# Altium integrated library TI Power Management Switching Regulator Charge Pump (Inductorless).IntLib: 239 symbols (part 8 of 14)
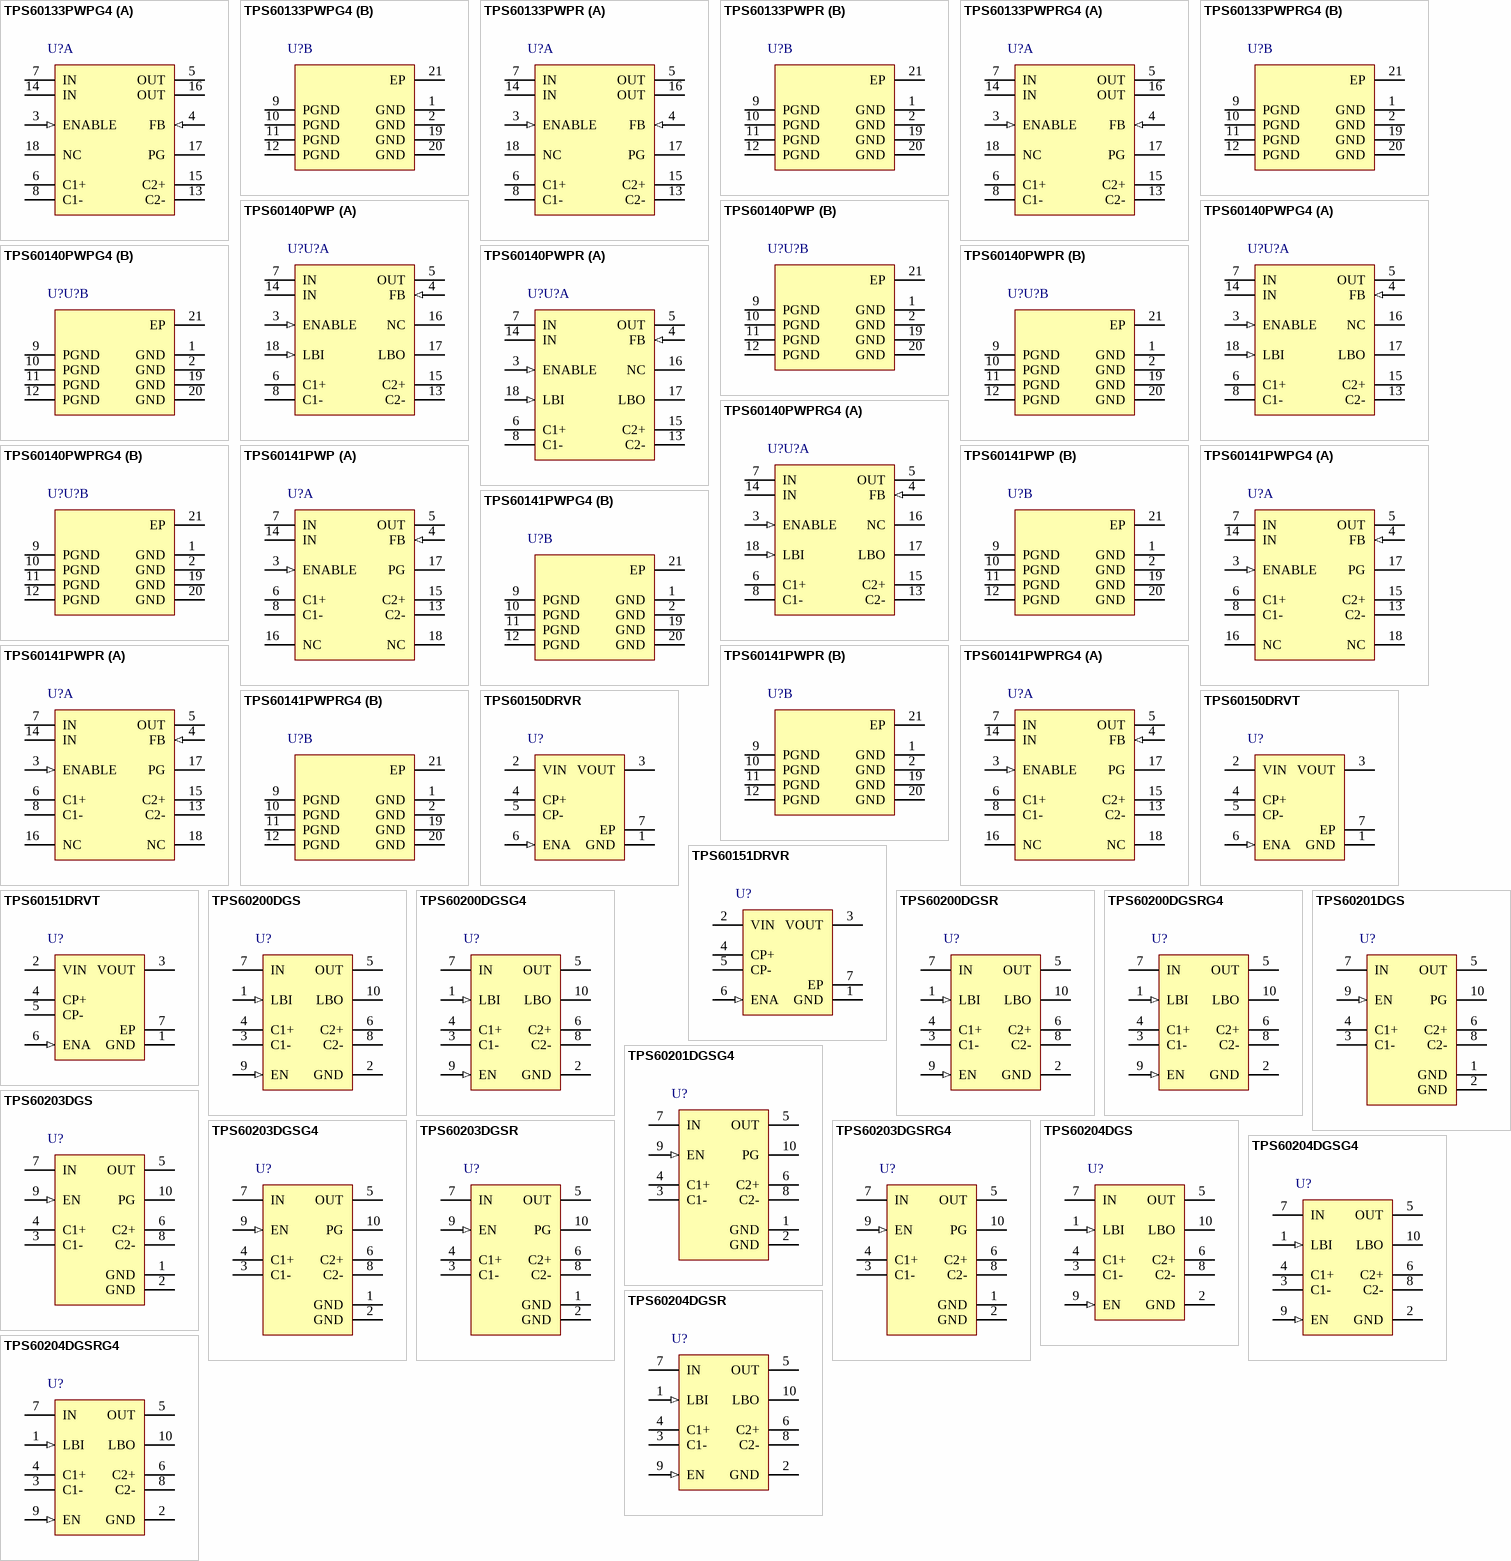
[diagram p14: symbols TPS60133PWPG4 to TPS60204DGSRG4]

## TPS60141PWPRG4
designator U?
5 V, Boost Charge Pump, 100 mA, 1.8 to 3.6 V Input with 2-Cell Alkaline / Nixx Input, -40 to 85 degC, 20-pin SOP (PWP20), Green (RoHS & no Sb/Br); Manufacturer: Texas Instruments; PartNumber: TPS60141PWPRG4; 2-Cell Alkaline/Nixx Input: TRUE; Efficiency(Typ)(%): 70; Iout(Max)(A): 0.1; Iq(Typ)(mA): 0.065; Preset Vout(V): 5; Switching Frequency(Max)(kHz): 450; Vin(Max)(V): 3.6; Vin(Min)(V): 1.8; Vout(Max)(V): 5.2; Vout(Min)(V): 4.8; DatasheetVersion: SLVS273; PackageVersion: 4073225-4/I; PackageReference: PWP20-2680X1950TP; PackageDescription: 20-Pin Plastic Small Outline, Body 6.5 x 4.4 mm, Pitch 0.65 mm; Supplier 1: Digi-Key; Supplier Part Number 1: TPS60141PWPRG4-ND; Supplier 2: Newark; Supplier Part Number 2: 54K1690; Supplier 3: Mouser; Supplier Part Number 3: 595-TPS60141PWPRG4; Eco-Plan: Green (RoHS & no Sb/Br); Topology: Boost; Mounting Technology: Surface Mount; Code_JEDEC: MO-153; ComponentLink1Description: Manufacturer URL; ComponentLink1URL: http://www.ti.com/; ComponentLink2Description: Datasheet; ComponentLink2URL: http://www.ti.com/general/docs/lit/getliterature.tsp?genericPartNumber=TPS60141&fileType=pdf; ComponentLink3Description: Package Specification; ComponentLink3URL: http://www.ti.com/litv/pdf/mhts001g
footprint TI-PWP20-2680X1950TP_N (SOP, 20-Leads, Body 6.4x4.4mm, Pitch 0.65mm, Thermal Pad 1.95x2.675mm, IPC Medium Density)
footprint TI-PWP20-2680X1950TP_L (SOP, 20-Leads, Body 6.4x4.4mm, Pitch 0.65mm, Thermal Pad 1.95x2.675mm, IPC High Density)
footprint TI-PWP20-2680X1950TP_M (SOP, 20-Leads, Body 6.4x4.4mm, Pitch 0.65mm, Thermal Pad 1.95x2.675mm, IPC Low Density)
part A pins: 3 ENABLE (in) "ENABLE input. Connect ENABLE to IN for normal operation. When ENABLE is a logic low, the device turns off and the supply current decreases to 0.05 µA. The output is disconnected from the input when the device is placed in (See Datasheet)", 4 FB (in) "Feedback input. Connect FB to OUT as close to the load as possible to achieve best regulation. A resistive divider is on the chip to match the output voltage to the internal reference voltage of 1.21 V.", 5 OUT (power) "Regulated 5-V power output. Bypass OUT to PGND with the output filter capacitor Co.", 6 C1+ "Positive terminal of the flying capacitor C1", 7 IN (power) "Supply input. Bypass IN to PGND with capacitor Ci . Connect both IN terminals through a short trace.", 8 C1- "Negative terminal of the flying capacitor C1", 13 C2- "Negative terminal of the flying capacitor C2", 14 IN (power) "Supply input. Bypass IN to PGND with capacitor Ci . Connect both IN terminals through a short trace.", 15 C2+ "Positive terminal of the flying capacitor C2", 16 NC "Not connected", 17 PG (hiz) "Low battery detector output (TPS60140) or power good output (TPS60141). Open drain output of the low-battery indicator or power-good comparator. It can sink 1 mA. A 100-k ohm to 1-Mohm pullup is recommended. Leave the (See Datasheet)", 18 NC "Low battery detector input (TPS60140 only). The voltage applied to this terminal is compared to the internal 1.21-V reference voltage. Connect the terminal to ground if the low-battery comparator is not used. On the (See Datasheet)"
part B pins: 1 GND (power) "Ground. Analog ground for internal reference and control circuitry. Connect to PGND through a short trace.", 2 GND (power) "Ground. Analog ground for internal reference and control circuitry. Connect to PGND through a short trace.", 9 PGND (power) "Power ground. The charge-pump current flows through this terminal. Connect all PGND terminals together.", 10 PGND (power) "Power ground. The charge-pump current flows through this terminal. Connect all PGND terminals together.", 11 PGND (power) "Power ground. The charge-pump current flows through this terminal. Connect all PGND terminals together.", 12 PGND (power) "Power ground. The charge-pump current flows through this terminal. Connect all PGND terminals together.", 19 GND (power) "Ground. Analog ground for internal reference and control circuitry. Connect to PGND through a short trace.", 20 GND (power) "Ground. Analog ground for internal reference and control circuitry. Connect to PGND through a short trace.", 21 EP

## TPS60150DRVR
designator U?
5 V, Step-Up Charge Pump Regulator, 140 mA, 2.7 to 5.5 V Input, -40 to 85 degC, 6-pin SON (DRV6), Green (RoHS & no Sb/Br); Manufacturer: Texas Instruments; PartNumber: TPS60150DRVR; Efficiency(Typ)(%): 70; Iout(Max)(A): 0.14; Iq(Typ)(mA): 4.7; Preset Vout(V): 5; Switching Frequency(Max)(kHz): 1500; Topology: Boost; Vin(Max)(V): 5.5; Vin(Min)(V): 2.7; Vout(Max)(V): 5.2; Vout(Min)(V): 4.8; DatasheetVersion: SLVS888B; PackageVersion: 4206925/E; PackageReference: DRV6-1600X1000TP; PackageDescription: 6-Pin Plastic Small Outline No-Lead, Body 2 x 2 mm, Pitch 0.65 mm; Supplier 1: Digi-Key; Supplier Part Number 1: 296-24054-2-ND; Supplier 2: Digi-Key; Supplier Part Number 2: 296-24054-1-ND; Supplier 3: Digi-Key; Supplier Part Number 3: 296-24054-6-ND; Supplier 4: Farnell; Supplier Part Number 4: 2120468; Supplier 5: Newark; Supplier Part Number 5: 94T5098; Supplier 6: Newark; Supplier Part Number 6: 45P8283; Supplier 7: Mouser; Supplier Part Number 7: 595-TPS60150DRVR; Eco-Plan: Green (RoHS & no Sb/Br); Mounting Technology: Surface Mount; ComponentLink1Description: Manufacturer URL; ComponentLink1URL: http://www.ti.com/; ComponentLink2Description: Datasheet; ComponentLink2URL: http://www.ti.com/general/docs/lit/getliterature.tsp?genericPartNumber=TPS60150&fileType=pdf; ComponentLink3Description: Package Specification; ComponentLink3URL: http://www.ti.com/litv/pdf/mpds216d
footprint TI-DRV6-1600X1000TP_V (SON, 6-Leads, Body 2x2mm, Pitch 0.65mm, Thermal Pad 1X1.6mm)
pins: 1 GND (power) "Ground", 2 VIN (power) "Supply voltage input", 3 VOUT (power) "Output, Connect to the output capacitor", 4 CP+ "Connect to the flying capacitor", 5 CP- "Connect to the flying capacitor", 6 ENA (in) "Hardware Enable/Disable Pin (High = Enable)", 7 EP (power)

## TPS60150DRVT
designator U?
5 V, Step-Up Charge Pump Regulator, 140 mA, 2.7 to 5.5 V Input, -40 to 85 degC, 6-pin SON (DRV6), Green (RoHS & no Sb/Br); Manufacturer: Texas Instruments; PartNumber: TPS60150DRVT; Efficiency(Typ)(%): 70; Iout(Max)(A): 0.14; Iq(Typ)(mA): 4.7; Preset Vout(V): 5; Switching Frequency(Max)(kHz): 1500; Topology: Boost; Vin(Max)(V): 5.5; Vin(Min)(V): 2.7; Vout(Max)(V): 5.2; Vout(Min)(V): 4.8; DatasheetVersion: SLVS888B; PackageVersion: 4206925/E; PackageReference: DRV6-1600X1000TP; PackageDescription: 6-Pin Plastic Small Outline No-Lead, Body 2 x 2 mm, Pitch 0.65 mm; Supplier 1: Digi-Key; Supplier Part Number 1: 296-27001-2-ND; Supplier 2: Digi-Key; Supplier Part Number 2: 296-27001-1-ND; Supplier 3: Digi-Key; Supplier Part Number 3: 296-27001-6-ND; Supplier 4: Farnell; Supplier Part Number 4: 1710822RL; Supplier 5: Farnell; Supplier Part Number 5: 1710822; Supplier 6: Newark; Supplier Part Number 6: 15R2542; Supplier 7: Newark; Supplier Part Number 7: 45P8284; Supplier 8: Mouser; Supplier Part Number 8: 595-TPS60150DRVT; Eco-Plan: Green (RoHS & no Sb/Br); Mounting Technology: Surface Mount; ComponentLink1Description: Manufacturer URL; ComponentLink1URL: http://www.ti.com/; ComponentLink2Description: Datasheet; ComponentLink2URL: http://www.ti.com/general/docs/lit/getliterature.tsp?genericPartNumber=TPS60150&fileType=pdf; ComponentLink3Description: Package Specification; ComponentLink3URL: http://www.ti.com/litv/pdf/mpds216d
footprint TI-DRV6-1600X1000TP_V (SON, 6-Leads, Body 2x2mm, Pitch 0.65mm, Thermal Pad 1X1.6mm)
pins: 1 GND (power) "Ground", 2 VIN (power) "Supply voltage input", 3 VOUT (power) "Output, Connect to the output capacitor", 4 CP+ "Connect to the flying capacitor", 5 CP- "Connect to the flying capacitor", 6 ENA (in) "Hardware Enable/Disable Pin (High = Enable)", 7 EP (power)

## TPS60151DRVR
designator U?
5 V, Step-Up Charge Pump Regulator, 140 mA, 2.7 to 5.5 V Input, -40 to 85 degC, 6-pin SON (DRV6), Green (RoHS & no Sb/Br); Manufacturer: Texas Instruments; PartNumber: TPS60151DRVR; Efficiency(Typ)(%): 70; Iout(Max)(A): 0.14; Iq(Typ)(mA): 4.7; Preset Vout(V): 5; Switching Frequency(Max)(kHz): 1500; Topology: Boost; Vin(Max)(V): 5.5; Vin(Min)(V): 2.7; Vout(Max)(V): 5.2; Vout(Min)(V): 4.8; DatasheetVersion: SLVSA02; PackageVersion: 4206925/E; PackageReference: DRV6-1600X1000TP; PackageDescription: 6-Pin Plastic Small Outline No-Lead, Body 2 x 2 mm, Pitch 0.65 mm; Supplier 1: Digi-Key; Supplier Part Number 1: 296-25279-2-ND; Supplier 2: Digi-Key; Supplier Part Number 2: 296-25279-1-ND; Supplier 3: Digi-Key; Supplier Part Number 3: 296-25279-6-ND; Supplier 4: Newark; Supplier Part Number 4: 55R7602; Supplier 5: Mouser; Supplier Part Number 5: 595-TPS60151DRVR; Eco-Plan: Green (RoHS & no Sb/Br); Mounting Technology: Surface Mount; ComponentLink1Description: Manufacturer URL; ComponentLink1URL: http://www.ti.com/; ComponentLink2Description: Datasheet; ComponentLink2URL: http://www.ti.com/general/docs/lit/getliterature.tsp?genericPartNumber=TPS60151&fileType=pdf; ComponentLink3Description: Package Specification; ComponentLink3URL: http://www.ti.com/litv/pdf/mpds216d
footprint TI-DRV6-1600X1000TP_V (SON, 6-Leads, Body 2x2mm, Pitch 0.65mm, Thermal Pad 1X1.6mm)
pins: 1 GND (power) "Ground", 2 VIN (power) "Supply voltage input", 3 VOUT (power) "Output, Connect to the output capacitor", 4 CP+ "Connect to the flying capacitor", 5 CP- "Connect to the flying capacitor", 6 ENA (in) "Hardware Enable/Disable Pin (High = Enable)", 7 EP

## TPS60151DRVT
designator U?
5 V, Step-Up Charge Pump Regulator, 140 mA, 2.7 to 5.5 V Input, -40 to 85 degC, 6-pin SON (DRV6), Green (RoHS & no Sb/Br); Manufacturer: Texas Instruments; PartNumber: TPS60151DRVT; Efficiency(Typ)(%): 70; Iout(Max)(A): 0.14; Iq(Typ)(mA): 4.7; Preset Vout(V): 5; Switching Frequency(Max)(kHz): 1500; Topology: Boost; Vin(Max)(V): 5.5; Vin(Min)(V): 2.7; Vout(Max)(V): 5.2; Vout(Min)(V): 4.8; DatasheetVersion: SLVSA02; PackageVersion: 4206925/E; PackageReference: DRV6-1600X1000TP; PackageDescription: 6-Pin Plastic Small Outline No-Lead, Body 2 x 2 mm, Pitch 0.65 mm; Supplier 1: Digi-Key; Supplier Part Number 1: 296-32495-2-ND; Supplier 2: Digi-Key; Supplier Part Number 2: 296-32495-1-ND; Supplier 3: Digi-Key; Supplier Part Number 3: 296-32495-6-ND; Supplier 4: Newark; Supplier Part Number 4: 55R7603; Supplier 5: Mouser; Supplier Part Number 5: 595-TPS60151DRVT; Eco-Plan: Green (RoHS & no Sb/Br); Mounting Technology: Surface Mount; ComponentLink1Description: Manufacturer URL; ComponentLink1URL: http://www.ti.com/; ComponentLink2Description: Datasheet; ComponentLink2URL: http://www.ti.com/general/docs/lit/getliterature.tsp?genericPartNumber=TPS60151&fileType=pdf; ComponentLink3Description: Package Specification; ComponentLink3URL: http://www.ti.com/litv/pdf/mpds216d
footprint TI-DRV6-1600X1000TP_V (SON, 6-Leads, Body 2x2mm, Pitch 0.65mm, Thermal Pad 1X1.6mm)
pins: 1 GND (power) "Ground", 2 VIN (power) "Supply voltage input", 3 VOUT (power) "Output, Connect to the output capacitor", 4 CP+ "Connect to the flying capacitor", 5 CP- "Connect to the flying capacitor", 6 ENA (in) "Hardware Enable/Disable Pin (High = Enable)", 7 EP

## TPS60200DGS
designator U?
3.3 V, Boost Charge Pump, 100 mA, 1.6 to 3.6 V Input with 2-Cell Alkaline / Nixx Input, -40 to 85 degC, 10-pin SOP (DGS10), Green (RoHS & no Sb/Br); Manufacturer: Texas Instruments; PartNumber: TPS60200DGS; 2-Cell Alkaline/Nixx Input: TRUE; Efficiency(Typ)(%): 70; Iout(Max)(A): 0.1; Iq(Typ)(mA): 0.035; Preset Vout(V): 3.3; Switching Frequency(Max)(kHz): 400; Vin(Max)(V): 3.6; Vin(Min)(V): 1.6; Vout(Max)(V): 3.47; Vout(Min)(V): 3.17; DatasheetVersion: SLVS274; PackageVersion: 4073225-6/I; PackageReference: DGS10; PackageDescription: 10-Pin Plastic Small Outline, Body 3.00 x 3.00 mm, Pitch 0.50 mm; Supplier 1: Digi-Key; Supplier Part Number 1: 296-10954-5-ND; Supplier 2: Newark; Supplier Part Number 2: 77C0577; Supplier 3: Mouser; Supplier Part Number 3: 595-TPS60200DGS; Eco-Plan: Green (RoHS & no Sb/Br); Topology: Boost; Mounting Technology: Surface Mount; Code_JEDEC: MO-153; ComponentLink1Description: Manufacturer URL; ComponentLink1URL: http://www.ti.com/; ComponentLink2Description: Datasheet; ComponentLink2URL: http://www.ti.com/general/docs/lit/getliterature.tsp?genericPartNumber=TPS60200&fileType=pdf; ComponentLink3Description: Package Specification; ComponentLink3URL: http://www.ti.com/litv/pdf/mpds373
footprint TI-DGS10_N (SOP, 10-Leads, Body 3x3mm, Pitch 0.5mm, IPC Medium Density)
footprint TI-DGS10_L (SOP, 10-Leads, Body 3x3mm, Pitch 0.5mm, IPC High Density)
footprint TI-DGS10_M (SOP, 10-Leads, Body 3x3mm, Pitch 0.5mm, IPC Low Density)
pins: 1 LBI (in) "Low-battery detector input for TPS60200 and TPS60202. A low-battery warning is generated at the LBO pin when the voltage on LBI drops below the threshold of 1.18 V. Connect LBI to GND if the low-battery detector function is (See Datasheet)", 2 GND (power) "Ground.", 3 C1- "Negative terminal of the flying capacitor C1", 4 C1+ "Positive terminal of the flying capacitor C1", 5 OUT (power) "Regulated 3.3-V power output. Bypass OUT to GND with the output filter capacitor Co.", 6 C2+ "Positive terminal of the flying capacitor C2", 7 IN (power) "Supply input. Bypass IN to GND with a capacitor of the same size as Co.", 8 C2- "Negative terminal of the flying capacitor C2", 9 EN (in) "Device-enable input. Three operating modes can be programmed with the EN pin.", 10 LBO (hiz) "Open-drain low-battery detector output for TPS60200 and TPS60202. This pin is pulled low if the voltage on LBI drops below the threshold of 1.18 V. A pullup resistor should be connected between LBO and OUT or any other logic (See Datasheet)"

## TPS60200DGSG4
designator U?
3.3 V, Boost Charge Pump, 100 mA, 1.6 to 3.6 V Input with 2-Cell Alkaline / Nixx Input, -40 to 85 degC, 10-pin SOP (DGS10), Green (RoHS & no Sb/Br); Manufacturer: Texas Instruments; PartNumber: TPS60200DGSG4; 2-Cell Alkaline/Nixx Input: TRUE; Efficiency(Typ)(%): 70; Iout(Max)(A): 0.1; Iq(Typ)(mA): 0.035; Preset Vout(V): 3.3; Switching Frequency(Max)(kHz): 400; Vin(Max)(V): 3.6; Vin(Min)(V): 1.6; Vout(Max)(V): 3.47; Vout(Min)(V): 3.17; DatasheetVersion: SLVS274; PackageVersion: 4073225-6/I; PackageReference: DGS10; PackageDescription: 10-Pin Plastic Small Outline, Body 3.00 x 3.00 mm, Pitch 0.50 mm; Supplier 1: Digi-Key; Supplier Part Number 1: TPS60200DGSG4-ND; Supplier 2: Farnell; Supplier Part Number 2: 1214398; Supplier 3: Newark; Supplier Part Number 3: 98K1821; Supplier 4: Mouser; Supplier Part Number 4: 595-TPS60200DGSG4; Eco-Plan: Green (RoHS & no Sb/Br); Topology: Boost; Mounting Technology: Surface Mount; Code_JEDEC: MO-153; ComponentLink1Description: Manufacturer URL; ComponentLink1URL: http://www.ti.com/; ComponentLink2Description: Datasheet; ComponentLink2URL: http://www.ti.com/general/docs/lit/getliterature.tsp?genericPartNumber=TPS60200&fileType=pdf; ComponentLink3Description: Package Specification; ComponentLink3URL: http://www.ti.com/litv/pdf/mpds373
footprint TI-DGS10_N (SOP, 10-Leads, Body 3x3mm, Pitch 0.5mm, IPC Medium Density)
footprint TI-DGS10_L (SOP, 10-Leads, Body 3x3mm, Pitch 0.5mm, IPC High Density)
footprint TI-DGS10_M (SOP, 10-Leads, Body 3x3mm, Pitch 0.5mm, IPC Low Density)
pins: 1 LBI (in) "Low-battery detector input for TPS60200 and TPS60202. A low-battery warning is generated at the LBO pin when the voltage on LBI drops below the threshold of 1.18 V. Connect LBI to GND if the low-battery detector function is (See Datasheet)", 2 GND (power) "Ground.", 3 C1- "Negative terminal of the flying capacitor C1", 4 C1+ "Positive terminal of the flying capacitor C1", 5 OUT (power) "Regulated 3.3-V power output. Bypass OUT to GND with the output filter capacitor Co.", 6 C2+ "Positive terminal of the flying capacitor C2", 7 IN (power) "Supply input. Bypass IN to GND with a capacitor of the same size as Co.", 8 C2- "Negative terminal of the flying capacitor C2", 9 EN (in) "Device-enable input. Three operating modes can be programmed with the EN pin.", 10 LBO (hiz) "Open-drain low-battery detector output for TPS60200 and TPS60202. This pin is pulled low if the voltage on LBI drops below the threshold of 1.18 V. A pullup resistor should be connected between LBO and OUT or any other logic (See Datasheet)"

## TPS60200DGSR
designator U?
3.3 V, Boost Charge Pump, 100 mA, 1.6 to 3.6 V Input with 2-Cell Alkaline / Nixx Input, -40 to 85 degC, 10-pin SOP (DGS10), Green (RoHS & no Sb/Br); Manufacturer: Texas Instruments; PartNumber: TPS60200DGSR; 2-Cell Alkaline/Nixx Input: TRUE; Efficiency(Typ)(%): 70; Iout(Max)(A): 0.1; Iq(Typ)(mA): 0.035; Preset Vout(V): 3.3; Switching Frequency(Max)(kHz): 400; Vin(Max)(V): 3.6; Vin(Min)(V): 1.6; Vout(Max)(V): 3.47; Vout(Min)(V): 3.17; DatasheetVersion: SLVS274; PackageVersion: 4073225-6/I; PackageReference: DGS10; PackageDescription: 10-Pin Plastic Small Outline, Body 3.00 x 3.00 mm, Pitch 0.50 mm; Supplier 1: Digi-Key; Supplier Part Number 1: TPS60200DGSR-ND; Supplier 2: Newark; Supplier Part Number 2: 77C0578; Supplier 3: Mouser; Supplier Part Number 3: 595-TPS60200DGSR; Eco-Plan: Green (RoHS & no Sb/Br); Topology: Boost; Mounting Technology: Surface Mount; Code_JEDEC: MO-153; ComponentLink1Description: Manufacturer URL; ComponentLink1URL: http://www.ti.com/; ComponentLink2Description: Datasheet; ComponentLink2URL: http://www.ti.com/general/docs/lit/getliterature.tsp?genericPartNumber=TPS60200&fileType=pdf; ComponentLink3Description: Package Specification; ComponentLink3URL: http://www.ti.com/litv/pdf/mpds373
footprint TI-DGS10_N (SOP, 10-Leads, Body 3x3mm, Pitch 0.5mm, IPC Medium Density)
footprint TI-DGS10_L (SOP, 10-Leads, Body 3x3mm, Pitch 0.5mm, IPC High Density)
footprint TI-DGS10_M (SOP, 10-Leads, Body 3x3mm, Pitch 0.5mm, IPC Low Density)
pins: 1 LBI (in) "Low-battery detector input for TPS60200 and TPS60202. A low-battery warning is generated at the LBO pin when the voltage on LBI drops below the threshold of 1.18 V. Connect LBI to GND if the low-battery detector function is (See Datasheet)", 2 GND (power) "Ground.", 3 C1- "Negative terminal of the flying capacitor C1", 4 C1+ "Positive terminal of the flying capacitor C1", 5 OUT (power) "Regulated 3.3-V power output. Bypass OUT to GND with the output filter capacitor Co.", 6 C2+ "Positive terminal of the flying capacitor C2", 7 IN (power) "Supply input. Bypass IN to GND with a capacitor of the same size as Co.", 8 C2- "Negative terminal of the flying capacitor C2", 9 EN (in) "Device-enable input. Three operating modes can be programmed with the EN pin.", 10 LBO (hiz) "Open-drain low-battery detector output for TPS60200 and TPS60202. This pin is pulled low if the voltage on LBI drops below the threshold of 1.18 V. A pullup resistor should be connected between LBO and OUT or any other logic (See Datasheet)"

## TPS60200DGSRG4
designator U?
3.3 V, Boost Charge Pump, 100 mA, 1.6 to 3.6 V Input with 2-Cell Alkaline / Nixx Input, -40 to 85 degC, 10-pin SOP (DGS10), Green (RoHS & no Sb/Br); Manufacturer: Texas Instruments; PartNumber: TPS60200DGSRG4; 2-Cell Alkaline/Nixx Input: TRUE; Efficiency(Typ)(%): 70; Iout(Max)(A): 0.1; Iq(Typ)(mA): 0.035; Preset Vout(V): 3.3; Switching Frequency(Max)(kHz): 400; Vin(Max)(V): 3.6; Vin(Min)(V): 1.6; Vout(Max)(V): 3.47; Vout(Min)(V): 3.17; DatasheetVersion: SLVS274; PackageVersion: 4073225-6/I; PackageReference: DGS10; PackageDescription: 10-Pin Plastic Small Outline, Body 3.00 x 3.00 mm, Pitch 0.50 mm; Supplier 1: Digi-Key; Supplier Part Number 1: TPS60200DGSRG4-ND; Supplier 2: Mouser; Supplier Part Number 2: 595-TPS60200DGSRG4; Eco-Plan: Green (RoHS & no Sb/Br); Topology: Boost; Mounting Technology: Surface Mount; Code_JEDEC: MO-153; ComponentLink1Description: Manufacturer URL; ComponentLink1URL: http://www.ti.com/; ComponentLink2Description: Datasheet; ComponentLink2URL: http://www.ti.com/general/docs/lit/getliterature.tsp?genericPartNumber=TPS60200&fileType=pdf; ComponentLink3Description: Package Specification; ComponentLink3URL: http://www.ti.com/litv/pdf/mpds373
footprint TI-DGS10_N (SOP, 10-Leads, Body 3x3mm, Pitch 0.5mm, IPC Medium Density)
footprint TI-DGS10_L (SOP, 10-Leads, Body 3x3mm, Pitch 0.5mm, IPC High Density)
footprint TI-DGS10_M (SOP, 10-Leads, Body 3x3mm, Pitch 0.5mm, IPC Low Density)
pins: 1 LBI (in) "Low-battery detector input for TPS60200 and TPS60202. A low-battery warning is generated at the LBO pin when the voltage on LBI drops below the threshold of 1.18 V. Connect LBI to GND if the low-battery detector function is (See Datasheet)", 2 GND (power) "Ground.", 3 C1- "Negative terminal of the flying capacitor C1", 4 C1+ "Positive terminal of the flying capacitor C1", 5 OUT (power) "Regulated 3.3-V power output. Bypass OUT to GND with the output filter capacitor Co.", 6 C2+ "Positive terminal of the flying capacitor C2", 7 IN (power) "Supply input. Bypass IN to GND with a capacitor of the same size as Co.", 8 C2- "Negative terminal of the flying capacitor C2", 9 EN (in) "Device-enable input. Three operating modes can be programmed with the EN pin.", 10 LBO (hiz) "Open-drain low-battery detector output for TPS60200 and TPS60202. This pin is pulled low if the voltage on LBI drops below the threshold of 1.18 V. A pullup resistor should be connected between LBO and OUT or any other logic (See Datasheet)"

## TPS60201DGS
designator U?
3.3 V, Boost Charge Pump, 100 mA, 1.6 to 3.6 V Input, -40 to 125 degC, 10-pin SOP (DGS10), Green (RoHS & no Sb/Br); Manufacturer: Texas Instruments; PartNumber: TPS60201DGS; 2-Cell Alkaline/Nixx Input: TRUE; Efficiency(Typ)(%): 70; Iout(Max)(A): 0.1; Iq(Typ)(mA): 0.035; Preset Vout(V): 3.3; Switching Frequency(Max)(kHz): 400; Vin(Max)(V): 3.6; Vin(Min)(V): 1.6; Vout(Max)(V): 3.47; Vout(Min)(V): 3.17; DatasheetVersion: SLVS274; PackageVersion: 4073225-6/I; PackageReference: DGS10; PackageDescription: 10-Pin Plastic Small Outline, Body 3.00 x 3.00 mm, Pitch 0.50 mm; Supplier 1: Digi-Key; Supplier Part Number 1: 296-10956-5-ND; Supplier 2: Newark; Supplier Part Number 2: 77C0580; Supplier 3: Mouser; Supplier Part Number 3: 595-TPS60201DGS; Eco-Plan: Green (RoHS & no Sb/Br); Topology: Boost; Mounting Technology: Surface Mount; Code_JEDEC: MO-153; ComponentLink1Description: Manufacturer URL; ComponentLink1URL: http://www.ti.com/; ComponentLink2Description: Datasheet; ComponentLink2URL: http://www.ti.com/general/docs/lit/getliterature.tsp?genericPartNumber=TPS60201&fileType=pdf; ComponentLink3Description: Package Specification; ComponentLink3URL: http://www.ti.com/litv/pdf/mpds373
footprint TI-DGS10_N (SOP, 10-Leads, Body 3x3mm, Pitch 0.5mm, IPC Medium Density)
footprint TI-DGS10_L (SOP, 10-Leads, Body 3x3mm, Pitch 0.5mm, IPC High Density)
footprint TI-DGS10_M (SOP, 10-Leads, Body 3x3mm, Pitch 0.5mm, IPC Low Density)
pins: 1 GND (power) "This pin has to be connected to ground (GND pin).", 2 GND (power) "Ground.", 3 C1- "Negative terminal of the flying capacitor C1", 4 C1+ "Positive terminal of the flying capacitor C1", 5 OUT (power) "Regulated 3.3-V power output. Bypass OUT to GND with the output filter capacitor Co.", 6 C2+ "Positive terminal of the flying capacitor C2", 7 IN (power) "Supply input. Bypass IN to GND with a capacitor of the same size as Co.", 8 C2- "Negative terminal of the flying capacitor C2", 9 EN (in) "Device-enable input. Three operating modes can be programmed with the EN pin.", 10 PG (hiz) "Open-drain power-good detector output for TPS60201 and TPS60203. As soon as the voltage on OUT reaches about 90% of it is nominal value this pin goes active high. A pullup resistor should be connected between PG and OUT or (See Datasheet)"

## TPS60201DGSG4
designator U?
3.3 V, Boost Charge Pump, 100 mA, 1.6 to 3.6 V Input, -40 to 125 degC, 10-pin SOP (DGS10), Green (RoHS & no Sb/Br); Manufacturer: Texas Instruments; PartNumber: TPS60201DGSG4; 2-Cell Alkaline/Nixx Input: TRUE; Efficiency(Typ)(%): 70; Iout(Max)(A): 0.1; Iq(Typ)(mA): 0.035; Preset Vout(V): 3.3; Switching Frequency(Max)(kHz): 400; Vin(Max)(V): 3.6; Vin(Min)(V): 1.6; Vout(Max)(V): 3.47; Vout(Min)(V): 3.17; DatasheetVersion: SLVS274; PackageVersion: 4073225-6/I; PackageReference: DGS10; PackageDescription: 10-Pin Plastic Small Outline, Body 3.00 x 3.00 mm, Pitch 0.50 mm; Supplier 1: Digi-Key; Supplier Part Number 1: TPS60201DGSG4-ND; Supplier 2: Newark; Supplier Part Number 2: 60M1798; Supplier 3: Mouser; Supplier Part Number 3: 595-TPS60201DGSG4; Eco-Plan: Green (RoHS & no Sb/Br); Topology: Boost; Mounting Technology: Surface Mount; Code_JEDEC: MO-153; ComponentLink1Description: Manufacturer URL; ComponentLink1URL: http://www.ti.com/; ComponentLink2Description: Datasheet; ComponentLink2URL: http://www.ti.com/general/docs/lit/getliterature.tsp?genericPartNumber=TPS60201&fileType=pdf; ComponentLink3Description: Package Specification; ComponentLink3URL: http://www.ti.com/litv/pdf/mpds373
footprint TI-DGS10_N (SOP, 10-Leads, Body 3x3mm, Pitch 0.5mm, IPC Medium Density)
footprint TI-DGS10_L (SOP, 10-Leads, Body 3x3mm, Pitch 0.5mm, IPC High Density)
footprint TI-DGS10_M (SOP, 10-Leads, Body 3x3mm, Pitch 0.5mm, IPC Low Density)
pins: 1 GND (power) "This pin has to be connected to ground (GND pin).", 2 GND (power) "Ground.", 3 C1- "Negative terminal of the flying capacitor C1", 4 C1+ "Positive terminal of the flying capacitor C1", 5 OUT (power) "Regulated 3.3-V power output. Bypass OUT to GND with the output filter capacitor Co.", 6 C2+ "Positive terminal of the flying capacitor C2", 7 IN (power) "Supply input. Bypass IN to GND with a capacitor of the same size as Co.", 8 C2- "Negative terminal of the flying capacitor C2", 9 EN (in) "Device-enable input. Three operating modes can be programmed with the EN pin.", 10 PG (hiz) "Open-drain power-good detector output for TPS60201 and TPS60203. As soon as the voltage on OUT reaches about 90% of it is nominal value this pin goes active high. A pullup resistor should be connected between PG and OUT or (See Datasheet)"

## TPS60203DGS
designator U?
3.3 V, Boost Charge Pump, 50 mA, 1.6 to 3.6 V Input with 2-Cell Alkaline / Nixx Input, -40 to 85 degC, 10-pin SOP (DGS10), Green (RoHS & no Sb/Br); Manufacturer: Texas Instruments; PartNumber: TPS60203DGS; 2-Cell Alkaline/Nixx Input: TRUE; Efficiency(Typ)(%): 70; Iout(Max)(A): 0.05; Iq(Typ)(mA): 0.035; Preset Vout(V): 3.3; Switching Frequency(Max)(kHz): 400; Vin(Max)(V): 3.6; Vin(Min)(V): 1.6; Vout(Max)(V): 3.43; Vout(Min)(V): 3.17; DatasheetVersion: SLVS274; PackageVersion: 4073225-6/I; PackageReference: DGS10; PackageDescription: 10-Pin Plastic Small Outline, Body 3.00 x 3.00 mm, Pitch 0.50 mm; Supplier 1: Digi-Key; Supplier Part Number 1: 296-10958-5-ND; Supplier 2: Newark; Supplier Part Number 2: 77C0584; Supplier 3: Mouser; Supplier Part Number 3: 595-TPS60203DGS; Eco-Plan: Green (RoHS & no Sb/Br); Topology: Boost; Mounting Technology: Surface Mount; Code_JEDEC: MO-153; ComponentLink1Description: Manufacturer URL; ComponentLink1URL: http://www.ti.com/; ComponentLink2Description: Datasheet; ComponentLink2URL: http://www.ti.com/general/docs/lit/getliterature.tsp?genericPartNumber=TPS60203&fileType=pdf; ComponentLink3Description: Package Specification; ComponentLink3URL: http://www.ti.com/litv/pdf/mpds373
footprint TI-DGS10_N (SOP, 10-Leads, Body 3x3mm, Pitch 0.5mm, IPC Medium Density)
footprint TI-DGS10_L (SOP, 10-Leads, Body 3x3mm, Pitch 0.5mm, IPC High Density)
footprint TI-DGS10_M (SOP, 10-Leads, Body 3x3mm, Pitch 0.5mm, IPC Low Density)
pins: 1 GND (power) "This pin has to be connected to ground (GND pin).", 2 GND (power) "Ground.", 3 C1- "Negative terminal of the flying capacitor C1", 4 C1+ "Positive terminal of the flying capacitor C1", 5 OUT (power) "Regulated 3.3-V power output. Bypass OUT to GND with the output filter capacitor Co.", 6 C2+ "Positive terminal of the flying capacitor C2", 7 IN (power) "Supply input. Bypass IN to GND with a capacitor of the same size as Co.", 8 C2- "Negative terminal of the flying capacitor C2", 9 EN (in) "Device-enable input. Three operating modes can be programmed with the EN pin.", 10 PG (hiz) "Open-drain power-good detector output for TPS60201 and TPS60203. As soon as the voltage on OUT reaches about 90% of it is nominal value this pin goes active high. A pullup resistor should be connected between PG and OUT or (See Datasheet)"

## TPS60203DGSG4
designator U?
3.3 V, Boost Charge Pump, 50 mA, 1.6 to 3.6 V Input with 2-Cell Alkaline / Nixx Input, -40 to 85 degC, 10-pin SOP (DGS10), Green (RoHS & no Sb/Br); Manufacturer: Texas Instruments; PartNumber: TPS60203DGSG4; 2-Cell Alkaline/Nixx Input: TRUE; Efficiency(Typ)(%): 70; Iout(Max)(A): 0.05; Iq(Typ)(mA): 0.035; Preset Vout(V): 3.3; Switching Frequency(Max)(kHz): 400; Vin(Max)(V): 3.6; Vin(Min)(V): 1.6; Vout(Max)(V): 3.43; Vout(Min)(V): 3.17; DatasheetVersion: SLVS274; PackageVersion: 4073225-6/I; PackageReference: DGS10; PackageDescription: 10-Pin Plastic Small Outline, Body 3.00 x 3.00 mm, Pitch 0.50 mm; Supplier 1: Digi-Key; Supplier Part Number 1: TPS60203DGSG4-ND; Supplier 2: Mouser; Supplier Part Number 2: 595-TPS60203DGSG4; Eco-Plan: Green (RoHS & no Sb/Br); Topology: Boost; Mounting Technology: Surface Mount; Code_JEDEC: MO-153; ComponentLink1Description: Manufacturer URL; ComponentLink1URL: http://www.ti.com/; ComponentLink2Description: Datasheet; ComponentLink2URL: http://www.ti.com/general/docs/lit/getliterature.tsp?genericPartNumber=TPS60203&fileType=pdf; ComponentLink3Description: Package Specification; ComponentLink3URL: http://www.ti.com/litv/pdf/mpds373
footprint TI-DGS10_N (SOP, 10-Leads, Body 3x3mm, Pitch 0.5mm, IPC Medium Density)
footprint TI-DGS10_L (SOP, 10-Leads, Body 3x3mm, Pitch 0.5mm, IPC High Density)
footprint TI-DGS10_M (SOP, 10-Leads, Body 3x3mm, Pitch 0.5mm, IPC Low Density)
pins: 1 GND (power) "This pin has to be connected to ground (GND pin).", 2 GND (power) "Ground.", 3 C1- "Negative terminal of the flying capacitor C1", 4 C1+ "Positive terminal of the flying capacitor C1", 5 OUT (power) "Regulated 3.3-V power output. Bypass OUT to GND with the output filter capacitor Co.", 6 C2+ "Positive terminal of the flying capacitor C2", 7 IN (power) "Supply input. Bypass IN to GND with a capacitor of the same size as Co.", 8 C2- "Negative terminal of the flying capacitor C2", 9 EN (in) "Device-enable input. Three operating modes can be programmed with the EN pin.", 10 PG (hiz) "Open-drain power-good detector output for TPS60201 and TPS60203. As soon as the voltage on OUT reaches about 90% of it is nominal value this pin goes active high. A pullup resistor should be connected between PG and OUT or (See Datasheet)"

## TPS60203DGSR
designator U?
3.3 V, Boost Charge Pump, 50 mA, 1.6 to 3.6 V Input with 2-Cell Alkaline / Nixx Input, -40 to 85 degC, 10-pin SOP (DGS10), Green (RoHS & no Sb/Br); Manufacturer: Texas Instruments; PartNumber: TPS60203DGSR; 2-Cell Alkaline/Nixx Input: TRUE; Efficiency(Typ)(%): 70; Iout(Max)(A): 0.05; Iq(Typ)(mA): 0.035; Preset Vout(V): 3.3; Switching Frequency(Max)(kHz): 400; Vin(Max)(V): 3.6; Vin(Min)(V): 1.6; Vout(Max)(V): 3.43; Vout(Min)(V): 3.17; DatasheetVersion: SLVS274; PackageVersion: 4073225-6/I; PackageReference: DGS10; PackageDescription: 10-Pin Plastic Small Outline, Body 3.00 x 3.00 mm, Pitch 0.50 mm; Supplier 1: Digi-Key; Supplier Part Number 1: TPS60203DGSRTR-ND; Supplier 2: Digi-Key; Supplier Part Number 2: TPS60203DGSRCT-ND; Supplier 3: Newark; Supplier Part Number 3: 77C0585; Supplier 4: Mouser; Supplier Part Number 4: 595-TPS60203DGSR; Eco-Plan: Green (RoHS & no Sb/Br); Topology: Boost; Mounting Technology: Surface Mount; Code_JEDEC: MO-153; ComponentLink1Description: Manufacturer URL; ComponentLink1URL: http://www.ti.com/; ComponentLink2Description: Datasheet; ComponentLink2URL: http://www.ti.com/general/docs/lit/getliterature.tsp?genericPartNumber=TPS60203&fileType=pdf; ComponentLink3Description: Package Specification; ComponentLink3URL: http://www.ti.com/litv/pdf/mpds373
footprint TI-DGS10_N (SOP, 10-Leads, Body 3x3mm, Pitch 0.5mm, IPC Medium Density)
footprint TI-DGS10_L (SOP, 10-Leads, Body 3x3mm, Pitch 0.5mm, IPC High Density)
footprint TI-DGS10_M (SOP, 10-Leads, Body 3x3mm, Pitch 0.5mm, IPC Low Density)
pins: 1 GND (power) "This pin has to be connected to ground (GND pin).", 2 GND (power) "Ground.", 3 C1- "Negative terminal of the flying capacitor C1", 4 C1+ "Positive terminal of the flying capacitor C1", 5 OUT (power) "Regulated 3.3-V power output. Bypass OUT to GND with the output filter capacitor Co.", 6 C2+ "Positive terminal of the flying capacitor C2", 7 IN (power) "Supply input. Bypass IN to GND with a capacitor of the same size as Co.", 8 C2- "Negative terminal of the flying capacitor C2", 9 EN (in) "Device-enable input. Three operating modes can be programmed with the EN pin.", 10 PG (hiz) "Open-drain power-good detector output for TPS60201 and TPS60203. As soon as the voltage on OUT reaches about 90% of it is nominal value this pin goes active high. A pullup resistor should be connected between PG and OUT or (See Datasheet)"

## TPS60203DGSRG4
designator U?
3.3 V, Boost Charge Pump, 50 mA, 1.6 to 3.6 V Input with 2-Cell Alkaline / Nixx Input, -40 to 85 degC, 10-pin SOP (DGS10), Green (RoHS & no Sb/Br); Manufacturer: Texas Instruments; PartNumber: TPS60203DGSRG4; 2-Cell Alkaline/Nixx Input: TRUE; Efficiency(Typ)(%): 70; Iout(Max)(A): 0.05; Iq(Typ)(mA): 0.035; Preset Vout(V): 3.3; Switching Frequency(Max)(kHz): 400; Vin(Max)(V): 3.6; Vin(Min)(V): 1.6; Vout(Max)(V): 3.43; Vout(Min)(V): 3.17; DatasheetVersion: SLVS274; PackageVersion: 4073225-6/I; PackageReference: DGS10; PackageDescription: 10-Pin Plastic Small Outline, Body 3.00 x 3.00 mm, Pitch 0.50 mm; Supplier 1: Digi-Key; Supplier Part Number 1: TPS60203DGSRG4-ND; Supplier 2: Mouser; Supplier Part Number 2: 595-TPS60203DGSRG4; Eco-Plan: Green (RoHS & no Sb/Br); Topology: Boost; Mounting Technology: Surface Mount; Code_JEDEC: MO-153; ComponentLink1Description: Manufacturer URL; ComponentLink1URL: http://www.ti.com/; ComponentLink2Description: Datasheet; ComponentLink2URL: http://www.ti.com/general/docs/lit/getliterature.tsp?genericPartNumber=TPS60203&fileType=pdf; ComponentLink3Description: Package Specification; ComponentLink3URL: http://www.ti.com/litv/pdf/mpds373
footprint TI-DGS10_N (SOP, 10-Leads, Body 3x3mm, Pitch 0.5mm, IPC Medium Density)
footprint TI-DGS10_L (SOP, 10-Leads, Body 3x3mm, Pitch 0.5mm, IPC High Density)
footprint TI-DGS10_M (SOP, 10-Leads, Body 3x3mm, Pitch 0.5mm, IPC Low Density)
pins: 1 GND (power) "This pin has to be connected to ground (GND pin).", 2 GND (power) "Ground.", 3 C1- "Negative terminal of the flying capacitor C1", 4 C1+ "Positive terminal of the flying capacitor C1", 5 OUT (power) "Regulated 3.3-V power output. Bypass OUT to GND with the output filter capacitor Co.", 6 C2+ "Positive terminal of the flying capacitor C2", 7 IN (power) "Supply input. Bypass IN to GND with a capacitor of the same size as Co.", 8 C2- "Negative terminal of the flying capacitor C2", 9 EN (in) "Device-enable input. Three operating modes can be programmed with the EN pin.", 10 PG (hiz) "Open-drain power-good detector output for TPS60201 and TPS60203. As soon as the voltage on OUT reaches about 90% of it is nominal value this pin goes active high. A pullup resistor should be connected between PG and OUT or (See Datasheet)"

## TPS60204DGS
designator U?
3.3 V, Boost Charge Pump, 100 mA, 1.6 to 3.6 V Input with 2-Cell Alkaline / Nixx Input, -40 to 85 degC, 10-pin SOP (DGS10), Green (RoHS & no Sb/Br); Manufacturer: Texas Instruments; PartNumber: TPS60204DGS; 2-Cell Alkaline/Nixx Input: TRUE; Efficiency(Typ)(%): 90; Iout(Max)(A): 0.1; Iq(Typ)(mA): 0.035; Preset Vout(V): 3.3; Switching Frequency(Max)(kHz): 400; Vin(Max)(V): 3.6; Vin(Min)(V): 1.6; Vout(Max)(V): 3.43; Vout(Min)(V): 3.17; DatasheetVersion: SLVS354A; PackageVersion: 4073225-6/I; PackageReference: DGS10; PackageDescription: 10-Pin Plastic Small Outline, Body 3.00 x 3.00 mm, Pitch 0.50 mm; Supplier 1: Digi-Key; Supplier Part Number 1: 296-27002-5-ND; Supplier 2: Newark; Supplier Part Number 2: 77C0586; Supplier 3: Mouser; Supplier Part Number 3: 595-TPS60204DGS; Eco-Plan: Green (RoHS & no Sb/Br); Topology: Boost; Mounting Technology: Surface Mount; Code_JEDEC: MO-153; ComponentLink1Description: Manufacturer URL; ComponentLink1URL: http://www.ti.com/; ComponentLink2Description: Datasheet; ComponentLink2URL: http://www.ti.com/general/docs/lit/getliterature.tsp?genericPartNumber=TPS60204&fileType=pdf; ComponentLink3Description: Package Specification; ComponentLink3URL: http://www.ti.com/litv/pdf/mpds373
footprint TI-DGS10_N (SOP, 10-Leads, Body 3x3mm, Pitch 0.5mm, IPC Medium Density)
footprint TI-DGS10_L (SOP, 10-Leads, Body 3x3mm, Pitch 0.5mm, IPC High Density)
footprint TI-DGS10_M (SOP, 10-Leads, Body 3x3mm, Pitch 0.5mm, IPC Low Density)
pins: 1 LBI (in) "Low-battery detector input for TPS60200 and TPS60202. A low-battery warning is generated at the LBO pin when the voltage on LBI drops below the threshold of 1.18 V. Connect LBI to GND if the low-battery detector function is (See Datasheet)", 2 GND (power) "Ground.", 3 C1- "Negative terminal of the flying capacitor C1", 4 C1+ "Positive terminal of the flying capacitor C1", 5 OUT (power) "Regulated 3.3-V power output. Bypass OUT to GND with the output filter capacitor Co.", 6 C2+ "Positive terminal of the flying capacitor C2", 7 IN (power) "Supply input. Bypass IN to GND with a capacitor of the same size as Co.", 8 C2- "Negative terminal of the flying capacitor C2", 9 EN (in) "Device-enable input. Three operating modes can be programmed with the EN pin.", 10 LBO (hiz) "Open-drain low-battery detector output for TPS60200 and TPS60202. This pin is pulled low if the voltage on LBI drops below the threshold of 1.18 V. A pullup resistor should be connected between LBO and OUT or any other logic (See Datasheet)"

## TPS60204DGSG4
designator U?
3.3 V, Boost Charge Pump, 100 mA, 1.6 to 3.6 V Input with 2-Cell Alkaline / Nixx Input, -40 to 85 degC, 10-pin SOP (DGS10), Green (RoHS & no Sb/Br); Manufacturer: Texas Instruments; PartNumber: TPS60204DGSG4; 2-Cell Alkaline/Nixx Input: TRUE; Efficiency(Typ)(%): 90; Iout(Max)(A): 0.1; Iq(Typ)(mA): 0.035; Preset Vout(V): 3.3; Switching Frequency(Max)(kHz): 400; Vin(Max)(V): 3.6; Vin(Min)(V): 1.6; Vout(Max)(V): 3.43; Vout(Min)(V): 3.17; DatasheetVersion: SLVS354A; PackageVersion: 4073225-6/I; PackageReference: DGS10; PackageDescription: 10-Pin Plastic Small Outline, Body 3.00 x 3.00 mm, Pitch 0.50 mm; Supplier 1: Digi-Key; Supplier Part Number 1: TPS60204DGSG4-ND; Supplier 2: Mouser; Supplier Part Number 2: 595-TPS60204DGSG4; Eco-Plan: Green (RoHS & no Sb/Br); Topology: Boost; Mounting Technology: Surface Mount; Code_JEDEC: MO-153; ComponentLink1Description: Manufacturer URL; ComponentLink1URL: http://www.ti.com/; ComponentLink2Description: Datasheet; ComponentLink2URL: http://www.ti.com/general/docs/lit/getliterature.tsp?genericPartNumber=TPS60204&fileType=pdf; ComponentLink3Description: Package Specification; ComponentLink3URL: http://www.ti.com/litv/pdf/mpds373
footprint TI-DGS10_N (SOP, 10-Leads, Body 3x3mm, Pitch 0.5mm, IPC Medium Density)
footprint TI-DGS10_L (SOP, 10-Leads, Body 3x3mm, Pitch 0.5mm, IPC High Density)
footprint TI-DGS10_M (SOP, 10-Leads, Body 3x3mm, Pitch 0.5mm, IPC Low Density)
pins: 1 LBI (in) "Low-battery detector input for TPS60200 and TPS60202. A low-battery warning is generated at the LBO pin when the voltage on LBI drops below the threshold of 1.18 V. Connect LBI to GND if the low-battery detector function is (See Datasheet)", 2 GND (power) "Ground.", 3 C1- "Negative terminal of the flying capacitor C1", 4 C1+ "Positive terminal of the flying capacitor C1", 5 OUT (power) "Regulated 3.3-V power output. Bypass OUT to GND with the output filter capacitor Co.", 6 C2+ "Positive terminal of the flying capacitor C2", 7 IN (power) "Supply input. Bypass IN to GND with a capacitor of the same size as Co.", 8 C2- "Negative terminal of the flying capacitor C2", 9 EN (in) "Device-enable input. Three operating modes can be programmed with the EN pin.", 10 LBO (hiz) "Open-drain low-battery detector output for TPS60200 and TPS60202. This pin is pulled low if the voltage on LBI drops below the threshold of 1.18 V. A pullup resistor should be connected between LBO and OUT or any other logic (See Datasheet)"

## TPS60204DGSR
designator U?
3.3 V, Boost Charge Pump, 100 mA, 1.6 to 3.6 V Input with 2-Cell Alkaline / Nixx Input, -40 to 85 degC, 10-pin SOP (DGS10), Green (RoHS & no Sb/Br); Manufacturer: Texas Instruments; PartNumber: TPS60204DGSR; 2-Cell Alkaline/Nixx Input: TRUE; Efficiency(Typ)(%): 90; Iout(Max)(A): 0.1; Iq(Typ)(mA): 0.035; Preset Vout(V): 3.3; Switching Frequency(Max)(kHz): 400; Vin(Max)(V): 3.6; Vin(Min)(V): 1.6; Vout(Max)(V): 3.43; Vout(Min)(V): 3.17; DatasheetVersion: SLVS354A; PackageVersion: 4073225-6/I; PackageReference: DGS10; PackageDescription: 10-Pin Plastic Small Outline, Body 3.00 x 3.00 mm, Pitch 0.50 mm; Supplier 1: Digi-Key; Supplier Part Number 1: 296-12365-2-ND; Supplier 2: Digi-Key; Supplier Part Number 2: 296-12365-1-ND; Supplier 3: Digi-Key; Supplier Part Number 3: 296-12365-6-ND; Supplier 4: Newark; Supplier Part Number 4: 77C0587; Supplier 5: Mouser; Supplier Part Number 5: 595-TPS60204DGSR; Eco-Plan: Green (RoHS & no Sb/Br); Topology: Boost; Mounting Technology: Surface Mount; Code_JEDEC: MO-153; ComponentLink1Description: Manufacturer URL; ComponentLink1URL: http://www.ti.com/; ComponentLink2Description: Datasheet; ComponentLink2URL: http://www.ti.com/general/docs/lit/getliterature.tsp?genericPartNumber=TPS60204&fileType=pdf; ComponentLink3Description: Package Specification; ComponentLink3URL: http://www.ti.com/litv/pdf/mpds373
footprint TI-DGS10_N (SOP, 10-Leads, Body 3x3mm, Pitch 0.5mm, IPC Medium Density)
footprint TI-DGS10_L (SOP, 10-Leads, Body 3x3mm, Pitch 0.5mm, IPC High Density)
footprint TI-DGS10_M (SOP, 10-Leads, Body 3x3mm, Pitch 0.5mm, IPC Low Density)
pins: 1 LBI (in) "Low-battery detector input for TPS60200 and TPS60202. A low-battery warning is generated at the LBO pin when the voltage on LBI drops below the threshold of 1.18 V. Connect LBI to GND if the low-battery detector function is (See Datasheet)", 2 GND (power) "Ground.", 3 C1- "Negative terminal of the flying capacitor C1", 4 C1+ "Positive terminal of the flying capacitor C1", 5 OUT (power) "Regulated 3.3-V power output. Bypass OUT to GND with the output filter capacitor Co.", 6 C2+ "Positive terminal of the flying capacitor C2", 7 IN (power) "Supply input. Bypass IN to GND with a capacitor of the same size as Co.", 8 C2- "Negative terminal of the flying capacitor C2", 9 EN (in) "Device-enable input. Three operating modes can be programmed with the EN pin.", 10 LBO (hiz) "Open-drain low-battery detector output for TPS60200 and TPS60202. This pin is pulled low if the voltage on LBI drops below the threshold of 1.18 V. A pullup resistor should be connected between LBO and OUT or any other logic (See Datasheet)"

## TPS60204DGSRG4
designator U?
3.3 V, Boost Charge Pump, 100 mA, 1.6 to 3.6 V Input with 2-Cell Alkaline / Nixx Input, -40 to 85 degC, 10-pin SOP (DGS10), Green (RoHS & no Sb/Br); Manufacturer: Texas Instruments; PartNumber: TPS60204DGSRG4; 2-Cell Alkaline/Nixx Input: TRUE; Efficiency(Typ)(%): 90; Iout(Max)(A): 0.1; Iq(Typ)(mA): 0.035; Preset Vout(V): 3.3; Switching Frequency(Max)(kHz): 400; Vin(Max)(V): 3.6; Vin(Min)(V): 1.6; Vout(Max)(V): 3.43; Vout(Min)(V): 3.17; DatasheetVersion: SLVS354A; PackageVersion: 4073225-6/I; PackageReference: DGS10; PackageDescription: 10-Pin Plastic Small Outline, Body 3.00 x 3.00 mm, Pitch 0.50 mm; Supplier 1: Digi-Key; Supplier Part Number 1: TPS60204DGSRG4-ND; Supplier 2: Mouser; Supplier Part Number 2: 595-TPS60204DGSRG4; Eco-Plan: Green (RoHS & no Sb/Br); Topology: Boost; Mounting Technology: Surface Mount; Code_JEDEC: MO-153; ComponentLink1Description: Manufacturer URL; ComponentLink1URL: http://www.ti.com/; ComponentLink2Description: Datasheet; ComponentLink2URL: http://www.ti.com/general/docs/lit/getliterature.tsp?genericPartNumber=TPS60204&fileType=pdf; ComponentLink3Description: Package Specification; ComponentLink3URL: http://www.ti.com/litv/pdf/mpds373
footprint TI-DGS10_N (SOP, 10-Leads, Body 3x3mm, Pitch 0.5mm, IPC Medium Density)
footprint TI-DGS10_L (SOP, 10-Leads, Body 3x3mm, Pitch 0.5mm, IPC High Density)
footprint TI-DGS10_M (SOP, 10-Leads, Body 3x3mm, Pitch 0.5mm, IPC Low Density)
pins: 1 LBI (in) "Low-battery detector input for TPS60200 and TPS60202. A low-battery warning is generated at the LBO pin when the voltage on LBI drops below the threshold of 1.18 V. Connect LBI to GND if the low-battery detector function is (See Datasheet)", 2 GND (power) "Ground.", 3 C1- "Negative terminal of the flying capacitor C1", 4 C1+ "Positive terminal of the flying capacitor C1", 5 OUT (power) "Regulated 3.3-V power output. Bypass OUT to GND with the output filter capacitor Co.", 6 C2+ "Positive terminal of the flying capacitor C2", 7 IN (power) "Supply input. Bypass IN to GND with a capacitor of the same size as Co.", 8 C2- "Negative terminal of the flying capacitor C2", 9 EN (in) "Device-enable input. Three operating modes can be programmed with the EN pin.", 10 LBO (hiz) "Open-drain low-battery detector output for TPS60200 and TPS60202. This pin is pulled low if the voltage on LBI drops below the threshold of 1.18 V. A pullup resistor should be connected between LBO and OUT or any other logic (See Datasheet)"

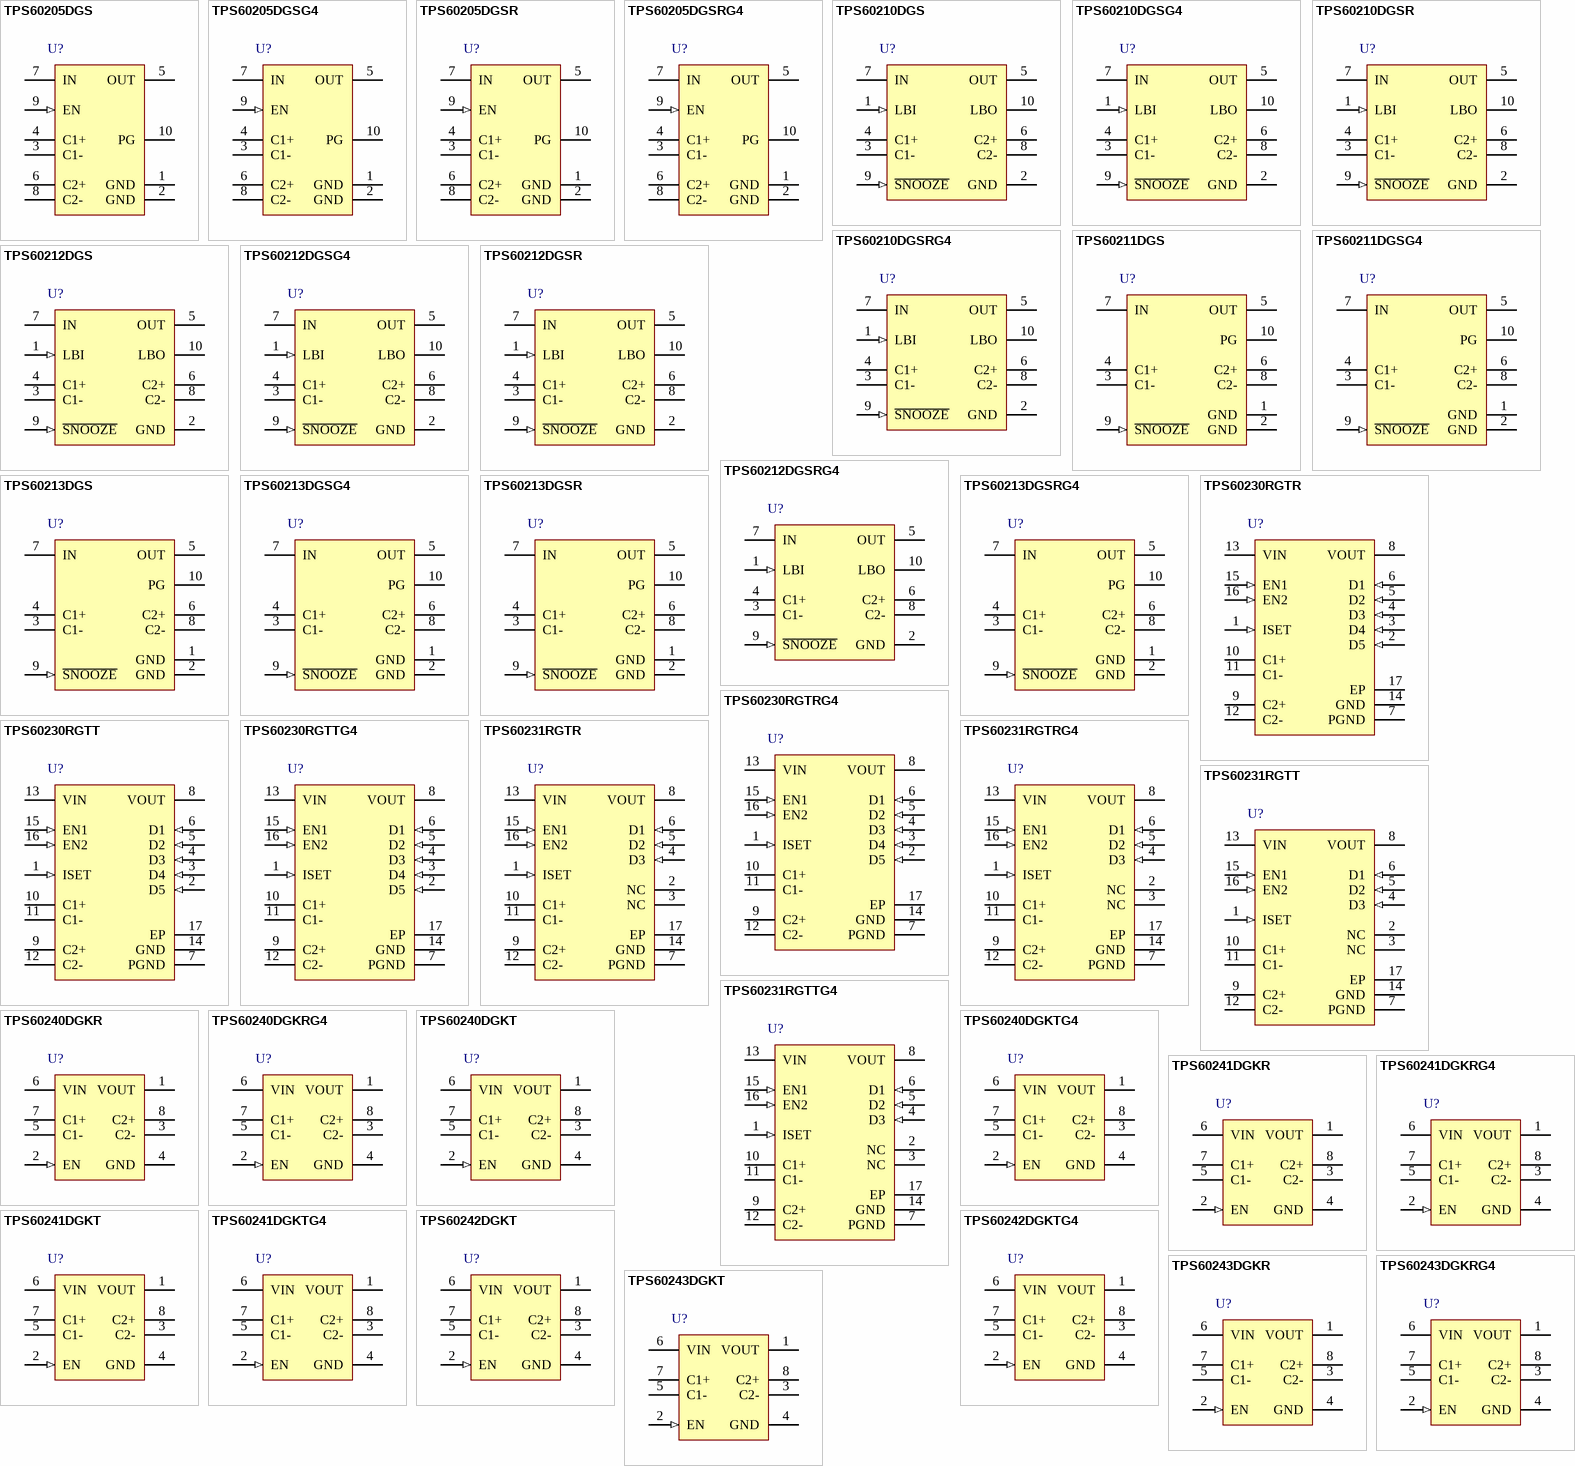
[diagram p5: symbols TPS60205DGS to TPS60243DGKT]

## TPS60205DGS
designator U?
3.3 V, Boost Charge Pump, 100 mA, 1.6 to 3.6 V Input with 2-Cell Alkaline / Nixx Input, -40 to 85 degC, 10-pin SOP (DGS10), Green (RoHS & no Sb/Br); Manufacturer: Texas Instruments; PartNumber: TPS60205DGS; 2-Cell Alkaline/Nixx Input: TRUE; Efficiency(Typ)(%): 90; Iout(Max)(A): 0.1; Iq(Typ)(mA): 0.035; Preset Vout(V): 3.3; Switching Frequency(Max)(kHz): 400; Vin(Max)(V): 3.6; Vin(Min)(V): 1.6; Vout(Max)(V): 3.43; Vout(Min)(V): 3.17; DatasheetVersion: SLVS354A; PackageVersion: 4073225-6/I; PackageReference: DGS10; PackageDescription: 10-Pin Plastic Small Outline, Body 3.00 x 3.00 mm, Pitch 0.50 mm; Supplier 1: Digi-Key; Supplier Part Number 1: 296-34623-5-ND; Supplier 2: Newark; Supplier Part Number 2: 77C0588; Supplier 3: Mouser; Supplier Part Number 3: 595-TPS60205DGS; Eco-Plan: Green (RoHS & no Sb/Br); Topology: Boost; Mounting Technology: Surface Mount; Code_JEDEC: MO-153; ComponentLink1Description: Manufacturer URL; ComponentLink1URL: http://www.ti.com/; ComponentLink2Description: Datasheet; ComponentLink2URL: http://www.ti.com/general/docs/lit/getliterature.tsp?genericPartNumber=TPS60205&fileType=pdf; ComponentLink3Description: Package Specification; ComponentLink3URL: http://www.ti.com/litv/pdf/mpds373
footprint TI-DGS10_N (SOP, 10-Leads, Body 3x3mm, Pitch 0.5mm, IPC Medium Density)
footprint TI-DGS10_L (SOP, 10-Leads, Body 3x3mm, Pitch 0.5mm, IPC High Density)
footprint TI-DGS10_M (SOP, 10-Leads, Body 3x3mm, Pitch 0.5mm, IPC Low Density)
pins: 1 GND (power) "This pin has to be connected to ground (GND pin).", 2 GND (power) "Ground.", 3 C1- "Negative terminal of the flying capacitor C1", 4 C1+ "Positive terminal of the flying capacitor C1", 5 OUT (power) "Regulated 3.3-V power output. Bypass OUT to GND with the output filter capacitor Co.", 6 C2+ "Positive terminal of the flying capacitor C2", 7 IN (power) "Supply input. Bypass IN to GND with a capacitor of the same size as Co.", 8 C2- "Negative terminal of the flying capacitor C2", 9 EN (in) "Device-enable input. Three operating modes can be programmed with the EN pin.", 10 PG (hiz) "Open-drain power-good detector output for the TPS60205. As soon as the voltage on OUT reaches about 90% of it is nominal value this pin goes active high. A pullup resistor should be connected between PG and OUT or any other (See Datasheet)"